# Altium footprint library 694106301002.PcbLib: 1 footprints
Each footprint in its own frame and in the unit in brackets; x right, y up, seen from the top. Pads: shape width x height; smd on the part's side, far side on the other; paste and mask are expansions set on the pad; w line width, h text height; cw(c..) or ccw(c..) is an arc to the next point about the centre after c.
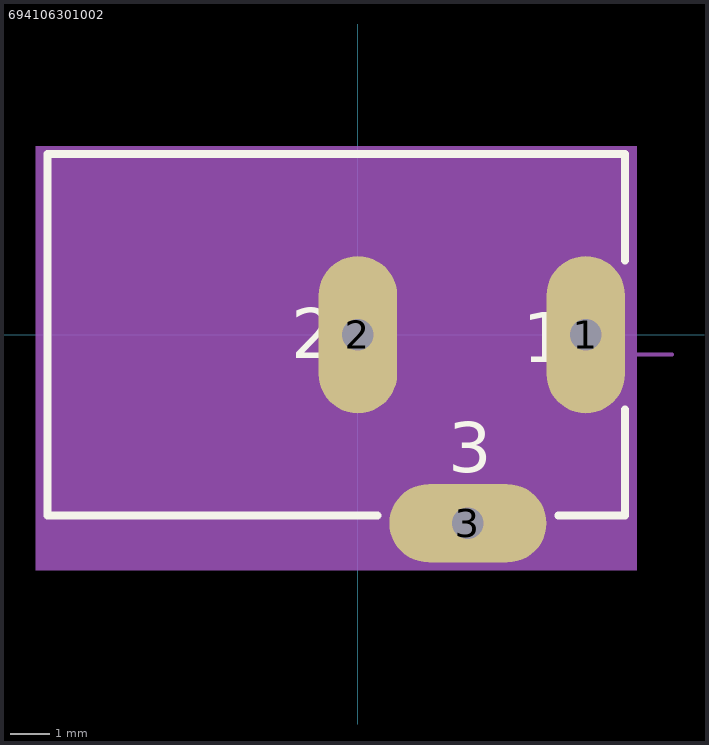
[diagram p0: the footprint, top view; thin cyan lines are the x and y axes]

## 694106301002 [mm]
pads (3):
  oval 2x4 hole 0.8: 1(5.8,0) 2(0,0)
  oval 4x2 hole 0.8: 3(2.8,-4.8)
Top Overlay:
  lines w0.2: 0.5,-4.6 -7.9,-4.6 -7.9,4.6 6.8,4.6 6.8,1.89 ; 5.1,-4.6 6.8,-4.6 6.8,-1.9
  text "3" at 2.3,-3.5 h1.27
  text "1" at 4.2,-0.7 h1.27
  text "2" at -1.7,-0.6 h1.27
Keep-Out Layer:
  board cut-out: 6.2,1.5 6.2,-1.5 5.4,-1.5 5.4,1.5
  board cut-out: 0.4,1.5 0.4,-1.5 -0.4,-1.5 -0.4,1.5
  board cut-out: 4.3,-4.4 4.3,-5.2 1.3,-5.2 1.3,-4.4
Milling Layer:
  lines w0.01: 0.4,-1.6 0.4,-1.5
  text "PCB Cutout Area" at 5.9,0 h0.25
  text "PCB Cutout Area" at 0.1,0 h0.25
  text "PCB Cutout Area" at 2.9,-5 h0.25
Assembly Top:
  lines w0.1: 6.4,-0.2 6.4,0 ; 6.6,0 6.4,0 ; 8,-0.5 7,-0.5 6.4,0 ; -7.8,-4.5 6.7,-4.5 6.7,4.5 -7.8,4.5 -7.8,-4.5
  text "PCB Cutout Area" at 5.9,0 h0.25
  text "Milling Layer" at 8.1,-0.9 h0.3
  text "the hole size should" at 8.1,-1.51 h0.3
  text "follow the Milling Layer" at 8.1,-2.119 h0.3
  text "PCB Cutout Area" at 0.1,0 h0.25
  text "PCB Cutout Area" at 2.9,-5 h0.25
Courtyard Top:
  region: 7.1,-6 -8.2,-6 -8.2,4.8 7.1,4.8
3D body "step_temp.STEP": height 11, standoff -3.5, extent -4.5,-5.35 5,9.15